# Altium integrated library TI Power Management Lighting and Display.IntLib: 745 symbols (part 35 of 48)
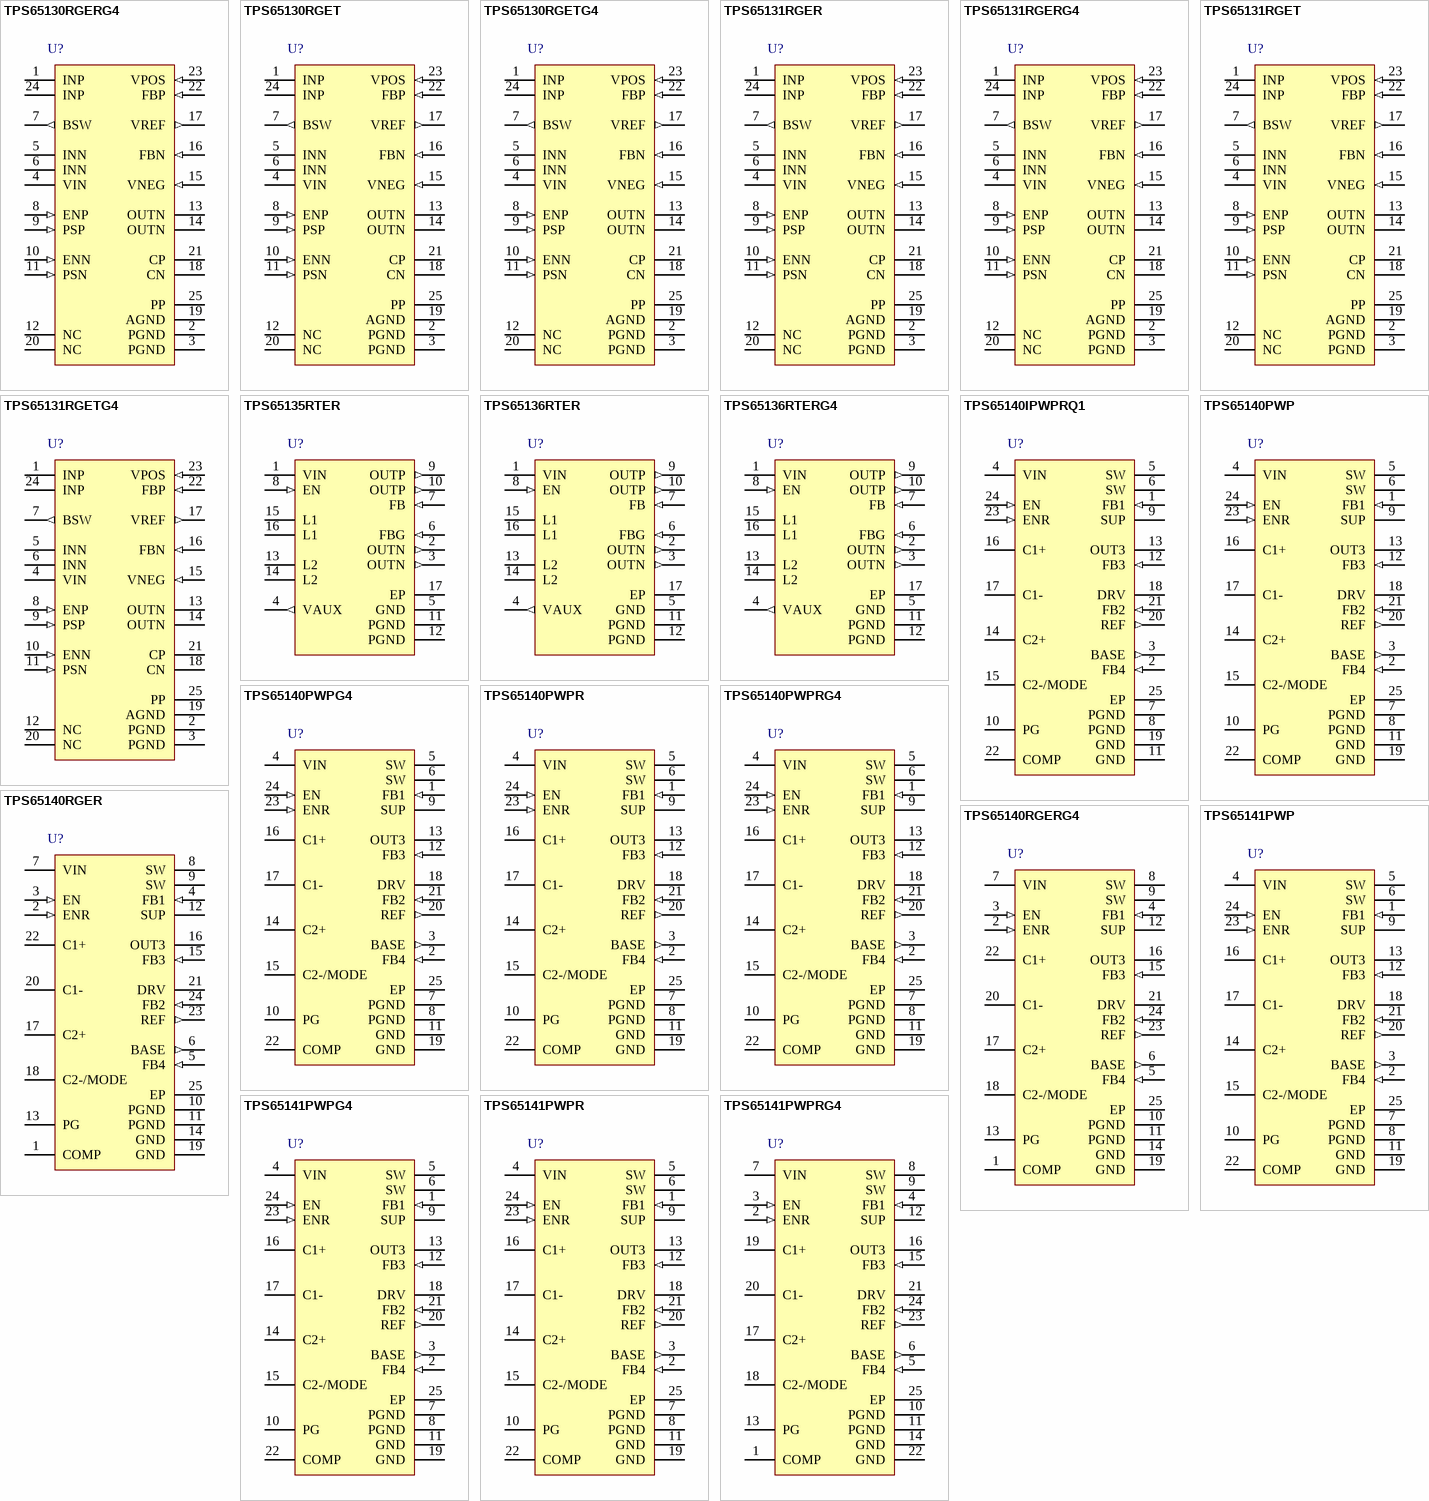
[diagram p65: symbols TPS65130RGERG4 to TPS65141PWPRG4]

## TPS65130RGET
designator U?
Postive and Negative Output DC-DC Converter, 2.7 to 5.5 V, -40 to 85 degC, 24-pin QFN (RGE24), Green (RoHS & no Sb/Br); Manufacturer: Texas Instruments; PartNumber: TPS65130RGET; Iq(Typ)(mA): 0.5; Rating: Catalog; SubFamily: LCD/OLED Display Bias Solutions; Switching Frequency(Typ)(kHz): 1400; Topology: Boost, Inverting Buck/Boost; Vin(Max)(V): 5.5; Vin(Min)(V): 2.7; DatasheetVersion: SLVS493B; PackageVersion: 4204104/G; PackageReference: RGE24-2450X2450TP; PackageDescription: 24-Pin Plastic Flat Pack, Body 4 x 4 mm, 0.5 mm Pitch; Supplier 1: Digi-Key; Supplier Part Number 1: TPS65130RGET-ND; Supplier 2: Newark; Supplier Part Number 2: 52K5944; Supplier 3: Mouser; Supplier Part Number 3: 595-TPS65130RGET; Eco-Plan: Green (RoHS & no Sb/Br); Mounting Technology: Surface Mount; Code_JEDEC: MO-220; ComponentLink1Description: Manufacturer URL; ComponentLink1URL: http://www.ti.com/; ComponentLink2Description: Datasheet; ComponentLink2URL: http://www.ti.com/general/docs/lit/getliterature.tsp?genericPartNumber=TPS65130&fileType=pdf; ComponentLink3Description: Package Specification; ComponentLink3URL: http://www.ti.com/litv/pdf/mpqf124f
footprint TI-RGE24-2450X2450TP_V (QFN, 24-Leads, Body 4x4mm, Pitch 0.5mm, Thermal Pad 2.45x2.45mm)
pins: 1 INP (power) "Boost converter switch input.", 2 PGND (power) "Power ground pin", 3 PGND (power) "Power ground pin", 4 VIN (power) "Control supply input", 5 INN (power) "Inverting converter switch input", 6 INN (power) "Inverting converter switch input", 7 BSW (out) "Gate control pin for external battery switch. This pin goes low when ENP is set high.", 8 ENP (in) "Enable pin for the positive output voltage (0 V: disabled, VIN: enabled)", 9 PSP (in) "Power-save mode enable for boost converter stage (0 V: disabled, VIN: enabled)", 10 ENN (in) "Enable pin for the negative output voltage (0 V: disabled, VIN: enabled)", 11 PSN (in) "Power-save mode enable for inverter stage (0 V: disabled, VIN: enabled)", 12 NC "Not connected", 13 OUTN (power) "Inverting converter switch output.", 14 OUTN (power) "Inverting converter switch output.", 15 VNEG (in) "Negative output voltage sense input", 16 FBN (in) "Feedback pin for the negative output voltage divider", 17 VREF (out) "Reference output voltage. Bypass this pin with a 220-nF capacitor to ground. Connect the lower resistor of the negative output voltage divider to this pin", 18 CN "Compensation pin for inverting converter control", 19 AGND (power) "Analog ground pin", 20 NC "Not connected", 21 CP "Compensation pin for boost converter control", 22 FBP (in) "Feedback pin for the positive output voltage divider", 23 VPOS (in) "Positive output voltage sense input", 24 INP (power) "Boost converter switch input.", 25 PP (power) "Must be soldered to achieve appropriate power dissipation and for mechanical reasons. Must be connected to GND."

## TPS65130RGETG4
designator U?
Postive and Negative Output DC-DC Converter, 2.7 to 5.5 V, -40 to 85 degC, 24-pin QFN (RGE24), Green (RoHS & no Sb/Br); Manufacturer: Texas Instruments; PartNumber: TPS65130RGETG4; Iq(Typ)(mA): 0.5; Rating: Catalog; SubFamily: LCD/OLED Display Bias Solutions; Switching Frequency(Typ)(kHz): 1400; Topology: Boost, Inverting Buck/Boost; Vin(Max)(V): 5.5; Vin(Min)(V): 2.7; DatasheetVersion: SLVS493B; PackageVersion: 4204104/G; PackageReference: RGE24-2450X2450TP; PackageDescription: 24-Pin Plastic Flat Pack, Body 4 x 4 mm, 0.5 mm Pitch; Supplier 1: Digi-Key; Supplier Part Number 1: TPS65130RGETG4-ND; Supplier 2: Newark; Supplier Part Number 2: 80K3422; Supplier 3: Mouser; Supplier Part Number 3: 595-TPS65130RGETG4; Eco-Plan: Green (RoHS & no Sb/Br); Mounting Technology: Surface Mount; Code_JEDEC: MO-220; ComponentLink1Description: Manufacturer URL; ComponentLink1URL: http://www.ti.com/; ComponentLink2Description: Datasheet; ComponentLink2URL: http://www.ti.com/general/docs/lit/getliterature.tsp?genericPartNumber=TPS65130&fileType=pdf; ComponentLink3Description: Package Specification; ComponentLink3URL: http://www.ti.com/litv/pdf/mpqf124f
footprint TI-RGE24-2450X2450TP_V (QFN, 24-Leads, Body 4x4mm, Pitch 0.5mm, Thermal Pad 2.45x2.45mm)
pins: 1 INP (power) "Boost converter switch input.", 2 PGND (power) "Power ground pin", 3 PGND (power) "Power ground pin", 4 VIN (power) "Control supply input", 5 INN (power) "Inverting converter switch input", 6 INN (power) "Inverting converter switch input", 7 BSW (out) "Gate control pin for external battery switch. This pin goes low when ENP is set high.", 8 ENP (in) "Enable pin for the positive output voltage (0 V: disabled, VIN: enabled)", 9 PSP (in) "Power-save mode enable for boost converter stage (0 V: disabled, VIN: enabled)", 10 ENN (in) "Enable pin for the negative output voltage (0 V: disabled, VIN: enabled)", 11 PSN (in) "Power-save mode enable for inverter stage (0 V: disabled, VIN: enabled)", 12 NC "Not connected", 13 OUTN (power) "Inverting converter switch output.", 14 OUTN (power) "Inverting converter switch output.", 15 VNEG (in) "Negative output voltage sense input", 16 FBN (in) "Feedback pin for the negative output voltage divider", 17 VREF (out) "Reference output voltage. Bypass this pin with a 220-nF capacitor to ground. Connect the lower resistor of the negative output voltage divider to this pin", 18 CN "Compensation pin for inverting converter control", 19 AGND (power) "Analog ground pin", 20 NC "Not connected", 21 CP "Compensation pin for boost converter control", 22 FBP (in) "Feedback pin for the positive output voltage divider", 23 VPOS (in) "Positive output voltage sense input", 24 INP (power) "Boost converter switch input.", 25 PP (power) "Must be soldered to achieve appropriate power dissipation and for mechanical reasons. Must be connected to GND."

## TPS65131RGER
designator U?
Postive and Negative Output DC-DC Converter, 2.7 to 5.5 V, -40 to 85 degC, 24-pin QFN (RGE24), Green (RoHS & no Sb/Br); Manufacturer: Texas Instruments; PartNumber: TPS65131RGER; Iq(Typ)(mA): 0.5; Rating: Catalog; SubFamily: LCD/OLED Display Bias Solutions; Switching Frequency(Typ)(kHz): 1400; Synchronous Rectification: TRUE; Topology: Boost, Inverting Buck/Boost; Vin(Max)(V): 5.5; Vin(Min)(V): 2.7; DatasheetVersion: SLVS493B; PackageVersion: 4204104/G; PackageReference: RGE24-2450X2450TP; PackageDescription: 24-Pin Plastic Flat Pack, Body 4 x 4 mm, 0.5 mm Pitch; Supplier 1: Digi-Key; Supplier Part Number 1: TPS65131RGER-ND; Supplier 2: Newark; Supplier Part Number 2: 44J2535; Supplier 3: Mouser; Supplier Part Number 3: 595-TPS65131RGER; Eco-Plan: Green (RoHS & no Sb/Br); Mounting Technology: Surface Mount; Code_JEDEC: MO-220; ComponentLink1Description: Manufacturer URL; ComponentLink1URL: http://www.ti.com/; ComponentLink2Description: Datasheet; ComponentLink2URL: http://www.ti.com/general/docs/lit/getliterature.tsp?genericPartNumber=TPS65131&fileType=pdf; ComponentLink3Description: Package Specification; ComponentLink3URL: http://www.ti.com/litv/pdf/mpqf124f
footprint TI-RGE24-2450X2450TP_V (QFN, 24-Leads, Body 4x4mm, Pitch 0.5mm, Thermal Pad 2.45x2.45mm)
pins: 1 INP (power) "Boost converter switch input.", 2 PGND (power) "Power ground pin", 3 PGND (power) "Power ground pin", 4 VIN (power) "Control supply input", 5 INN (power) "Inverting converter switch input", 6 INN (power) "Inverting converter switch input", 7 BSW (out) "Gate control pin for external battery switch. This pin goes low when ENP is set high.", 8 ENP (in) "Enable pin for the positive output voltage (0 V: disabled, VIN: enabled)", 9 PSP (in) "Power-save mode enable for boost converter stage (0 V: disabled, VIN: enabled)", 10 ENN (in) "Enable pin for the negative output voltage (0 V: disabled, VIN: enabled)", 11 PSN (in) "Power-save mode enable for inverter stage (0 V: disabled, VIN: enabled)", 12 NC "Not connected", 13 OUTN (power) "Inverting converter switch output.", 14 OUTN (power) "Inverting converter switch output.", 15 VNEG (in) "Negative output voltage sense input", 16 FBN (in) "Feedback pin for the negative output voltage divider", 17 VREF (out) "Reference output voltage. Bypass this pin with a 220-nF capacitor to ground. Connect the lower resistor of the negative output voltage divider to this pin", 18 CN "Compensation pin for inverting converter control", 19 AGND (power) "Analog ground pin", 20 NC "Not connected", 21 CP "Compensation pin for boost converter control", 22 FBP (in) "Feedback pin for the positive output voltage divider", 23 VPOS (in) "Positive output voltage sense input", 24 INP (power) "Boost converter switch input.", 25 PP (power) "Exposed Thermal Pad."

## TPS65131RGERG4
designator U?
Postive and Negative Output DC-DC Converter, 2.7 to 5.5 V, -40 to 85 degC, 24-pin QFN (RGE24), Green (RoHS & no Sb/Br); Manufacturer: Texas Instruments; PartNumber: TPS65131RGERG4; Iq(Typ)(mA): 0.5; Rating: Catalog; SubFamily: LCD/OLED Display Bias Solutions; Switching Frequency(Typ)(kHz): 1400; Synchronous Rectification: TRUE; Topology: Boost, Inverting Buck/Boost; Vin(Max)(V): 5.5; Vin(Min)(V): 2.7; DatasheetVersion: SLVS493B; PackageVersion: 4204104/G; PackageReference: RGE24-2450X2450TP; PackageDescription: 24-Pin Plastic Flat Pack, Body 4 x 4 mm, 0.5 mm Pitch; Supplier 1: Digi-Key; Supplier Part Number 1: TPS65131RGERG4-ND; Supplier 2: Newark; Supplier Part Number 2: 33K7647; Supplier 3: Mouser; Supplier Part Number 3: 595-TPS65131RGERG4; Eco-Plan: Green (RoHS & no Sb/Br); Mounting Technology: Surface Mount; Code_JEDEC: MO-220; ComponentLink1Description: Manufacturer URL; ComponentLink1URL: http://www.ti.com/; ComponentLink2Description: Datasheet; ComponentLink2URL: http://www.ti.com/general/docs/lit/getliterature.tsp?genericPartNumber=TPS65131&fileType=pdf; ComponentLink3Description: Package Specification; ComponentLink3URL: http://www.ti.com/litv/pdf/mpqf124f
footprint TI-RGE24-2450X2450TP_V (QFN, 24-Leads, Body 4x4mm, Pitch 0.5mm, Thermal Pad 2.45x2.45mm)
pins: 1 INP (power) "Boost converter switch input.", 2 PGND (power) "Power ground pin", 3 PGND (power) "Power ground pin", 4 VIN (power) "Control supply input", 5 INN (power) "Inverting converter switch input", 6 INN (power) "Inverting converter switch input", 7 BSW (out) "Gate control pin for external battery switch. This pin goes low when ENP is set high.", 8 ENP (in) "Enable pin for the positive output voltage (0 V: disabled, VIN: enabled)", 9 PSP (in) "Power-save mode enable for boost converter stage (0 V: disabled, VIN: enabled)", 10 ENN (in) "Enable pin for the negative output voltage (0 V: disabled, VIN: enabled)", 11 PSN (in) "Power-save mode enable for inverter stage (0 V: disabled, VIN: enabled)", 12 NC "Not connected", 13 OUTN (power) "Inverting converter switch output.", 14 OUTN (power) "Inverting converter switch output.", 15 VNEG (in) "Negative output voltage sense input", 16 FBN (in) "Feedback pin for the negative output voltage divider", 17 VREF (out) "Reference output voltage. Bypass this pin with a 220-nF capacitor to ground. Connect the lower resistor of the negative output voltage divider to this pin", 18 CN "Compensation pin for inverting converter control", 19 AGND (power) "Analog ground pin", 20 NC "Not connected", 21 CP "Compensation pin for boost converter control", 22 FBP (in) "Feedback pin for the positive output voltage divider", 23 VPOS (in) "Positive output voltage sense input", 24 INP (power) "Boost converter switch input.", 25 PP (power) "Exposed Thermal Pad."

## TPS65131RGET
designator U?
Postive and Negative Output DC-DC Converter, 2.7 to 5.5 V, -40 to 85 degC, 24-pin QFN (RGE24), Green (RoHS & no Sb/Br); Manufacturer: Texas Instruments; PartNumber: TPS65131RGET; Iq(Typ)(mA): 0.5; Rating: Catalog; SubFamily: LCD/OLED Display Bias Solutions; Switching Frequency(Typ)(kHz): 1400; Synchronous Rectification: TRUE; Topology: Boost, Inverting Buck/Boost; Vin(Max)(V): 5.5; Vin(Min)(V): 2.7; DatasheetVersion: SLVS493B; PackageVersion: 4204104/G; PackageReference: RGE24-2450X2450TP; PackageDescription: 24-Pin Plastic Flat Pack, Body 4 x 4 mm, 0.5 mm Pitch; Supplier 1: Digi-Key; Supplier Part Number 1: 296-17349-2-ND; Supplier 2: Digi-Key; Supplier Part Number 2: 296-17349-1-ND; Supplier 3: Digi-Key; Supplier Part Number 3: 296-17349-6-ND; Supplier 4: Newark; Supplier Part Number 4: 44J2536; Supplier 5: Mouser; Supplier Part Number 5: 595-TPS65131RGET; Eco-Plan: Green (RoHS & no Sb/Br); Mounting Technology: Surface Mount; Code_JEDEC: MO-220; ComponentLink1Description: Manufacturer URL; ComponentLink1URL: http://www.ti.com/; ComponentLink2Description: Datasheet; ComponentLink2URL: http://www.ti.com/general/docs/lit/getliterature.tsp?genericPartNumber=TPS65131&fileType=pdf; ComponentLink3Description: Package Specification; ComponentLink3URL: http://www.ti.com/litv/pdf/mpqf124f
footprint TI-RGE24-2450X2450TP_V (QFN, 24-Leads, Body 4x4mm, Pitch 0.5mm, Thermal Pad 2.45x2.45mm)
pins: 1 INP (power) "Boost converter switch input.", 2 PGND (power) "Power ground pin", 3 PGND (power) "Power ground pin", 4 VIN (power) "Control supply input", 5 INN (power) "Inverting converter switch input", 6 INN (power) "Inverting converter switch input", 7 BSW (out) "Gate control pin for external battery switch. This pin goes low when ENP is set high.", 8 ENP (in) "Enable pin for the positive output voltage (0 V: disabled, VIN: enabled)", 9 PSP (in) "Power-save mode enable for boost converter stage (0 V: disabled, VIN: enabled)", 10 ENN (in) "Enable pin for the negative output voltage (0 V: disabled, VIN: enabled)", 11 PSN (in) "Power-save mode enable for inverter stage (0 V: disabled, VIN: enabled)", 12 NC "Not connected", 13 OUTN (power) "Inverting converter switch output.", 14 OUTN (power) "Inverting converter switch output.", 15 VNEG (in) "Negative output voltage sense input", 16 FBN (in) "Feedback pin for the negative output voltage divider", 17 VREF (out) "Reference output voltage. Bypass this pin with a 220-nF capacitor to ground. Connect the lower resistor of the negative output voltage divider to this pin", 18 CN "Compensation pin for inverting converter control", 19 AGND (power) "Analog ground pin", 20 NC "Not connected", 21 CP "Compensation pin for boost converter control", 22 FBP (in) "Feedback pin for the positive output voltage divider", 23 VPOS (in) "Positive output voltage sense input", 24 INP (power) "Boost converter switch input.", 25 PP (power) "Exposed Thermal Pad."

## TPS65131RGETG4
designator U?
Postive and Negative Output DC-DC Converter, 2.7 to 5.5 V, -40 to 85 degC, 24-pin QFN (RGE24), Green (RoHS & no Sb/Br); Manufacturer: Texas Instruments; PartNumber: TPS65131RGETG4; Iq(Typ)(mA): 0.5; Rating: Catalog; SubFamily: LCD/OLED Display Bias Solutions; Switching Frequency(Typ)(kHz): 1400; Synchronous Rectification: TRUE; Topology: Boost, Inverting Buck/Boost; Vin(Max)(V): 5.5; Vin(Min)(V): 2.7; DatasheetVersion: SLVS493B; PackageVersion: 4204104/G; PackageReference: RGE24-2450X2450TP; PackageDescription: 24-Pin Plastic Flat Pack, Body 4 x 4 mm, 0.5 mm Pitch; Supplier 1: Digi-Key; Supplier Part Number 1: 296-28008-2-ND; Supplier 2: Digi-Key; Supplier Part Number 2: 296-28008-1-ND; Supplier 3: Digi-Key; Supplier Part Number 3: 296-28008-6-ND; Supplier 4: Newark; Supplier Part Number 4: 24K6058; Supplier 5: Mouser; Supplier Part Number 5: 595-TPS65131RGETG4; Eco-Plan: Green (RoHS & no Sb/Br); Mounting Technology: Surface Mount; Code_JEDEC: MO-220; ComponentLink1Description: Manufacturer URL; ComponentLink1URL: http://www.ti.com/; ComponentLink2Description: Datasheet; ComponentLink2URL: http://www.ti.com/general/docs/lit/getliterature.tsp?genericPartNumber=TPS65131&fileType=pdf; ComponentLink3Description: Package Specification; ComponentLink3URL: http://www.ti.com/litv/pdf/mpqf124f
footprint TI-RGE24-2450X2450TP_V (QFN, 24-Leads, Body 4x4mm, Pitch 0.5mm, Thermal Pad 2.45x2.45mm)
pins: 1 INP (power) "Boost converter switch input.", 2 PGND (power) "Power ground pin", 3 PGND (power) "Power ground pin", 4 VIN (power) "Control supply input", 5 INN (power) "Inverting converter switch input", 6 INN (power) "Inverting converter switch input", 7 BSW (out) "Gate control pin for external battery switch. This pin goes low when ENP is set high.", 8 ENP (in) "Enable pin for the positive output voltage (0 V: disabled, VIN: enabled)", 9 PSP (in) "Power-save mode enable for boost converter stage (0 V: disabled, VIN: enabled)", 10 ENN (in) "Enable pin for the negative output voltage (0 V: disabled, VIN: enabled)", 11 PSN (in) "Power-save mode enable for inverter stage (0 V: disabled, VIN: enabled)", 12 NC "Not connected", 13 OUTN (power) "Inverting converter switch output.", 14 OUTN (power) "Inverting converter switch output.", 15 VNEG (in) "Negative output voltage sense input", 16 FBN (in) "Feedback pin for the negative output voltage divider", 17 VREF (out) "Reference output voltage. Bypass this pin with a 220-nF capacitor to ground. Connect the lower resistor of the negative output voltage divider to this pin", 18 CN "Compensation pin for inverting converter control", 19 AGND (power) "Analog ground pin", 20 NC "Not connected", 21 CP "Compensation pin for boost converter control", 22 FBP (in) "Feedback pin for the positive output voltage divider", 23 VPOS (in) "Positive output voltage sense input", 24 INP (power) "Boost converter switch input.", 25 PP (power) "Exposed Thermal Pad."

## TPS65135RTER
designator U?
Single-Inductor, Multiple-Output(SIMO) Regulator, 2.5 to 5.5 V, -40 to 85 degC, 16-pin QFN (RTE16), Green (RoHS & no Sb/Br); Manufacturer: Texas Instruments; PartNumber: TPS65135RTER; Iq(Typ)(mA): 7; Rating: Catalog; SubFamily: LCD/OLED Display Bias Solutions; Topology: Buck/Boost; Vin(Max)(V): 5.5; Vin(Min)(V): 2.5; DatasheetVersion: SLVS704A; PackageVersion: 4205254/D; PackageReference: RTE16-1700X1700TP; PackageDescription: 16-Pin Plastic Flat Pack, Body 3 x 3 mm, Pitch 0.5 mm; Supplier 1: Digi-Key; Supplier Part Number 1: 296-29899-2-ND; Supplier 2: Digi-Key; Supplier Part Number 2: 296-29899-1-ND; Supplier 3: Digi-Key; Supplier Part Number 3: 296-29899-6-ND; Supplier 4: Newark; Supplier Part Number 4: 74T5571; Supplier 5: Mouser; Supplier Part Number 5: 595-TPS65135RTER; Eco-Plan: Green (RoHS & no Sb/Br); Mounting Technology: Surface Mount; Code_JEDEC: MO-220; ComponentLink1Description: Manufacturer URL; ComponentLink1URL: http://www.ti.com/; ComponentLink2Description: Datasheet; ComponentLink2URL: http://www.ti.com/general/docs/lit/getliterature.tsp?genericPartNumber=TPS65135&fileType=pdf; ComponentLink3Description: Package Specification; ComponentLink3URL: http://www.ti.com/litv/pdf/mpqf149c
footprint TI-RTE16-1700X1700TP_V (QFN, 16-Leads, Body 3x3mm, Pitch 0.5mm, Thermal Pad 1.7x1.7mm)
pins: 1 VIN (power) "Input supply", 2 OUTN (out) "Negative output", 3 OUTN (out) "Negative output", 4 VAUX (out) "Reference voltage output. This pin requires a 100-nF capacitor for stability.", 5 GND (power) "Analog ground", 6 FBG (in) "Feedback regulation input", 7 FB (in) "Feedback regulation input for the positive output voltage rail", 8 EN (in) "Input pin to enable the device. Pulling this pin high enables the device. This pin has an internal 500-k ohm pulldown resistor.", 9 OUTP (out) "Positive output", 10 OUTP (out) "Positive output", 11 PGND (power) "Power GND", 12 PGND (power) "Power GND", 13 L2 (power) "Inductor terminal", 14 L2 (power) "Inductor terminal", 15 L1 (power) "Inductor terminal", 16 L1 (power) "Inductor terminal", 17 EP (power) "Connect this pad to analog GND."

## TPS65136RTER
designator U?
Single Inductor Multiple Outputs (SIMO) for Positive and Negative Output, 2.3 to 5.5 V, -40 to 85 degC, 16-pin QFN (RTE16), Green (RoHS & no Sb/Br); Manufacturer: Texas Instruments; PartNumber: TPS65136RTER; Iq(Typ)(mA): 1.7; Rating: Catalog; SubFamily: LCD/OLED Display Bias Solutions; Switching Frequency(Typ)(kHz): 40 to 1000; Topology: Boost, Inverting Buck/Boost; Vin(Max)(V): 5.5; Vin(Min)(V): 2.3; DatasheetVersion: SLVS831A; PackageVersion: 4205254/D; PackageReference: RTE16-1700X1700TP; PackageDescription: 16-Pin Plastic Flat Pack, Body 3 x 3 mm, Pitch 0.5 mm; Supplier 1: Digi-Key; Supplier Part Number 1: 296-23398-2-ND; Supplier 2: Digi-Key; Supplier Part Number 2: 296-23398-1-ND; Supplier 3: Digi-Key; Supplier Part Number 3: 296-23398-6-ND; Supplier 4: Farnell; Supplier Part Number 4: 1647920; Supplier 5: Farnell; Supplier Part Number 5: 1647920RL; Supplier 6: Newark; Supplier Part Number 6: 33P8381; Supplier 7: Mouser; Supplier Part Number 7: 595-TPS65136RTER; Eco-Plan: Green (RoHS & no Sb/Br); Mounting Technology: Surface Mount; Code_JEDEC: MO-220; ComponentLink1Description: Manufacturer URL; ComponentLink1URL: http://www.ti.com/; ComponentLink2Description: Datasheet; ComponentLink2URL: http://www.ti.com/general/docs/lit/getliterature.tsp?genericPartNumber=TPS65136&fileType=pdf; ComponentLink3Description: Package Specification; ComponentLink3URL: http://www.ti.com/litv/pdf/mpqf149c
footprint TI-RTE16-1700X1700TP_V (QFN, 16-Leads, Body 3x3mm, Pitch 0.5mm, Thermal Pad 1.7x1.7mm)
pins: 1 VIN (power) "Input supply", 2 OUTN (out) "Negative output", 3 OUTN (out) "Negative output", 4 VAUX (out) "Reference voltage output. This pin requires a 100-nF capacitor for stability.", 5 GND (power) "Analog ground", 6 FBG (in) "Feedback regulation input", 7 FB (in) "Feedback regulation input for the positive output voltage rail", 8 EN (in) "Input pin to enable the device. Pulling this pin high enables the device. This pin has an internal 500-k ohm pulldown resistor.", 9 OUTP (out) "Positive output", 10 OUTP (out) "Positive output", 11 PGND (power) "Power GND", 12 PGND (power) "Power GND", 13 L2 (power) "Inductor terminal", 14 L2 (power) "Inductor terminal", 15 L1 (power) "Inductor terminal", 16 L1 (power) "Inductor terminal", 17 EP (power) "Connect this pad to analog GND."

## TPS65136RTERG4
designator U?
Single Inductor Multiple Outputs (SIMO) for Positive and Negative Output, 2.3 to 5.5 V, -40 to 85 degC, 16-pin QFN (RTE16), Green (RoHS & no Sb/Br); Manufacturer: Texas Instruments; PartNumber: TPS65136RTERG4; Iq(Typ)(mA): 1.7; Rating: Catalog; SubFamily: LCD/OLED Display Bias Solutions; Switching Frequency(Typ)(kHz): 40 to 1000; Topology: Boost, Inverting Buck/Boost; Vin(Max)(V): 5.5; Vin(Min)(V): 2.3; DatasheetVersion: SLVS831A; PackageVersion: 4205254/D; PackageReference: RTE16-1700X1700TP; PackageDescription: 16-Pin Plastic Flat Pack, Body 3 x 3 mm, Pitch 0.5 mm; Supplier 1: Digi-Key; Supplier Part Number 1: TPS65136RTERG4-ND; Supplier 2: Mouser; Supplier Part Number 2: 595-TPS65136RTERG4; Eco-Plan: Green (RoHS & no Sb/Br); Mounting Technology: Surface Mount; Code_JEDEC: MO-220; ComponentLink1Description: Manufacturer URL; ComponentLink1URL: http://www.ti.com/; ComponentLink2Description: Datasheet; ComponentLink2URL: http://www.ti.com/general/docs/lit/getliterature.tsp?genericPartNumber=TPS65136&fileType=pdf; ComponentLink3Description: Package Specification; ComponentLink3URL: http://www.ti.com/litv/pdf/mpqf149c
footprint TI-RTE16-1700X1700TP_V (QFN, 16-Leads, Body 3x3mm, Pitch 0.5mm, Thermal Pad 1.7x1.7mm)
pins: 1 VIN (power) "Input supply", 2 OUTN (out) "Negative output", 3 OUTN (out) "Negative output", 4 VAUX (out) "Reference voltage output. This pin requires a 100-nF capacitor for stability.", 5 GND (power) "Analog ground", 6 FBG (in) "Feedback regulation input", 7 FB (in) "Feedback regulation input for the positive output voltage rail", 8 EN (in) "Input pin to enable the device. Pulling this pin high enables the device. This pin has an internal 500-k ohm pulldown resistor.", 9 OUTP (out) "Positive output", 10 OUTP (out) "Positive output", 11 PGND (power) "Power GND", 12 PGND (power) "Power GND", 13 L2 (power) "Inductor terminal", 14 L2 (power) "Inductor terminal", 15 L1 (power) "Inductor terminal", 16 L1 (power) "Inductor terminal", 17 EP (power) "Connect this pad to analog GND."

## TPS65140IPWPRQ1
designator U?
Automotive Catalog 4-Channel Power Supply for LCD Monitor (5V), 2.7 to 5.8 V, -40 to 85 degC, 24-pin SOP (PWP24), Green (RoHS & no Sb/Br); Manufacturer: Texas Instruments; PartNumber: TPS65140IPWPRQ1; Iout(Max)(A): 0.02; Iq(Typ)(mA): 3.9; SubFamily: LCD/OLED Display Bias Solutions; Switching Frequency(Typ)(kHz): 1600; Topology: Boost, Inverting Buck/Boost; Vin(Max)(V): 5.8; Vin(Min)(V): 2.7; DatasheetVersion: SGLS277A; PackageVersion: 4073225-5/I; PackageReference: PWP24-4420X1950TP; PackageDescription: 24-Lead, Plastic Small Outline, Body Size 4.4 x 7.8 mm, Pitch 0.65 mm; Supplier 1: Digi-Key; Supplier Part Number 1: 296-19612-2-ND; Supplier 2: Digi-Key; Supplier Part Number 2: 296-19612-1-ND; Supplier 3: Digi-Key; Supplier Part Number 3: 296-19612-6-ND; Supplier 4: Mouser; Supplier Part Number 4: 595-TPS65140IPWPRQ1; Eco-Plan: Green (RoHS & no Sb/Br); Rating: Automotive; Mounting Technology: Surface Mount; Code_JEDEC: MO-153; ComponentLink1Description: Manufacturer URL; ComponentLink1URL: http://www.ti.com/; ComponentLink2Description: Datasheet; ComponentLink2URL: http://www.ti.com/general/docs/lit/getliterature.tsp?genericPartNumber=TPS65140-Q1&fileType=pdf; ComponentLink3Description: Package Specification; ComponentLink3URL: http://www.ti.com/lit/ds/symlink/tps65101.pdf
footprint TI-PWP24-4420X1950TP_N (SOP, 24-Leads, Body 7.8x4.4mm, Pitch 0.65mm, Thermal Pad 4.42x1.95mm, IPC Medium Density)
footprint TI-PWP24-4420X1950TP_L (SOP, 24-Leads, Body 7.8x4.4mm, Pitch 0.65mm, Thermal Pad 4.42x1.95mm, IPC High Density)
footprint TI-PWP24-4420X1950TP_M (SOP, 24-Leads, Body 7.8x4.4mm, Pitch 0.65mm, Thermal Pad 4.42x1.95mm, IPC Low Density)
pins: 1 FB1 (in) "Feedback pin of the boost converter", 2 FB4 (in) "Feedback pin the of the linear regulator controller .The linear regulator controller is set to a fixed output voltage of 3.3 V of 3 V depending on the version.", 3 BASE (out) "Base drive output for the external transistor", 4 VIN (power) "Input voltage pin of the device.", 5 SW (power) "Switch pin of the boost converter", 6 SW (power) "Switch pin of the boost converter", 7 PGND (power) "Power ground", 8 PGND (power) "Power ground", 9 SUP (power) "Supply pin of the positive, negative charge pump, boost converter, and gate drive circuit.This pin needs to be connected to the output of the main boots converter and cannot be onnected to any other voltage source.For (See Datasheet)", 10 PG (oc) "Open drain output indicating when all outputs VO1, VO2, VO3 are within 10% of their nominal output voltage. The output goes low when one of the outputs falls below 10% of their nominal output voltage.", 11 GND (power) "Ground", 12 FB3 (in) "Feedback pin of positive charge pump", 13 OUT3 (power) "Positive charge pump output", 14 C2+ "Positive terminal for the charge pump flying capacitor. If the device runs in voltage doubler mode, this pin needs to be left open.", 15 C2-/MODE "Negative terminal of the charge pump flying capacitor and charge pump MODE pin. If the flying capacitor is connected to this pin, the concerter operates in a voltage tripler mode.if the charge pump needs to operate in a (See Datasheet)", 16 C1+ "Positive terminal of the charge pump flying capacitor", 17 C1- "Negative terminal of the charge pump flying capacitor", 18 DRV (power) "External charge pump driver", 19 GND (power) "Ground", 20 REF (out) "Internal reference output typically 1.23 V", 21 FB2 (in) "Feedback pin of negative charge pump", 22 COMP "Compensation pin for the main boost converter. A small capacitor is connected to this pin.", 23 ENR (in) "Enable pin of the linear regulator controller. This pin should be terminated and not be left floating. Logic high enables the regulator and a logic low puts the regulator in shutdown.", 24 EN (in) "Enable pin of the device.This pin should be terminated and be left floating.A logic high enables the device and a logic low shuts down the device.", 25 EP (power) "The PowerPAD or exposed thermal die needs to be connected to power ground pins (PGND)"

## TPS65140PWP
designator U?
4-Channel LCD Bias with Fully Integrated Postive Charge Pump, 3.3 V LDO Controller, 2.7 to 5.8 V, -40 to 85 degC, 24-pin SOP (PWP24), Green (RoHS & no Sb/Br); Manufacturer: Texas Instruments; PartNumber: TPS65140PWP; Iout(Max)(A): 0.02; Iq(Typ)(mA): 0.7; Rating: Catalog; SubFamily: LCD/OLED Display Bias Solutions; Switching Frequency(Typ)(kHz): 1600; Synchronous Rectification: TRUE; Topology: Boost, Inverting Buck/Boost; Vin(Max)(V): 5.8; Vin(Min)(V): 2.7; DatasheetVersion: SLVS497E; PackageVersion: 4073225-5/I; PackageReference: PWP24-4420X1950TP; PackageDescription: 24-Lead, Plastic Small Outline, Body Size 4.4 x 7.8 mm, Pitch 0.65 mm; Supplier 1: Digi-Key; Supplier Part Number 1: 296-34637-5-ND; Supplier 2: Mouser; Supplier Part Number 2: 595-TPS65140PWP; Eco-Plan: Green (RoHS & no Sb/Br); Mounting Technology: Surface Mount; Code_JEDEC: MO-153; ComponentLink1Description: Manufacturer URL; ComponentLink1URL: http://www.ti.com/; ComponentLink2Description: Datasheet; ComponentLink2URL: http://www.ti.com/general/docs/lit/getliterature.tsp?genericPartNumber=TPS65140&fileType=pdf; ComponentLink3Description: Package Specification; ComponentLink3URL: http://www.ti.com/lit/ds/symlink/tps65101.pdf
footprint TI-PWP24-4420X1950TP_N (SOP, 24-Leads, Body 7.8x4.4mm, Pitch 0.65mm, Thermal Pad 4.42x1.95mm, IPC Medium Density)
footprint TI-PWP24-4420X1950TP_L (SOP, 24-Leads, Body 7.8x4.4mm, Pitch 0.65mm, Thermal Pad 4.42x1.95mm, IPC High Density)
footprint TI-PWP24-4420X1950TP_M (SOP, 24-Leads, Body 7.8x4.4mm, Pitch 0.65mm, Thermal Pad 4.42x1.95mm, IPC Low Density)
pins: 1 FB1 (in) "Feedback pin of the boost converter", 2 FB4 (in) "Feedback pin the of the linear regulator controller .The linear regulator controller is set to a fixed output voltage of 3.3 V of 3 V depending on the version.", 3 BASE (out) "Base drive output for the external transistor", 4 VIN (power) "Input voltage pin of the device.", 5 SW (power) "Switch pin of the boost converter", 6 SW (power) "Switch pin of the boost converter", 7 PGND (power) "Power ground", 8 PGND (power) "Power ground", 9 SUP (power) "Supply pin of the positive, negative charge pump, boost converter, and gate drive circuit.This pin needs to be connected to the output of the main boots converter and cannot be onnected to any other voltage source.For (See Datasheet)", 10 PG (oc) "Open drain output indicating when all outputs VO1, VO2, VO3 are within 10% of their nominal output voltage. The output goes low when one of the outputs falls below 10% of their nominal output voltage.", 11 GND (power) "Ground", 12 FB3 (in) "Feedback pin of positive charge pump", 13 OUT3 (power) "Positive charge pump output", 14 C2+ "Positive terminal for the charge pump flying capacitor. If the device runs in voltage doubler mode, this pin needs to be left open.", 15 C2-/MODE "Negative terminal of the charge pump flying capacitor and charge pump MODE pin. If the flying capacitor is connected to this pin, the concerter operates in a voltage tripler mode.if the charge pump needs to operate in a (See Datasheet)", 16 C1+ "Positive terminal of the charge pump flying capacitor", 17 C1- "Negative terminal of the charge pump flying capacitor", 18 DRV (power) "External charge pump driver", 19 GND (power) "Ground", 20 REF (out) "Internal reference output typically 1.23 V", 21 FB2 (in) "Feedback pin of negative charge pump", 22 COMP "Compensation pin for the main boost converter. A small capacitor is connected to this pin.", 23 ENR (in) "Enable pin of the linear regulator controller. This pin should be terminated and not be left floating. Logic high enables the regulator and a logic low puts the regulator in shutdown.", 24 EN (in) "Enable pin of the device.This pin should be terminated and be left floating.A logic high enables the device and a logic low shuts down the device.", 25 EP (power) "The PowerPAD or exposed thermal die needs to be connected to power ground pins (PGND)"

## TPS65140PWPG4
designator U?
4-Channel LCD Bias with Fully Integrated Postive Charge Pump, 3.3 V LDO Controller, 2.7 to 5.8 V, -40 to 85 degC, 24-pin SOP (PWP24), Green (RoHS & no Sb/Br); Manufacturer: Texas Instruments; PartNumber: TPS65140PWPG4; Iout(Max)(A): 0.02; Iq(Typ)(mA): 0.7; Rating: Catalog; SubFamily: LCD/OLED Display Bias Solutions; Switching Frequency(Typ)(kHz): 1600; Synchronous Rectification: TRUE; Topology: Boost, Inverting Buck/Boost; Vin(Max)(V): 5.8; Vin(Min)(V): 2.7; DatasheetVersion: SLVS497E; PackageVersion: 4073225-5/I; PackageReference: PWP24-4420X1950TP; PackageDescription: 24-Lead, Plastic Small Outline, Body Size 4.4 x 7.8 mm, Pitch 0.65 mm; Supplier 1: Digi-Key; Supplier Part Number 1: TPS65140PWPG4-ND; Supplier 2: Mouser; Supplier Part Number 2: 595-TPS65140PWPG4; Eco-Plan: Green (RoHS & no Sb/Br); Mounting Technology: Surface Mount; Code_JEDEC: MO-153; ComponentLink1Description: Manufacturer URL; ComponentLink1URL: http://www.ti.com/; ComponentLink2Description: Datasheet; ComponentLink2URL: http://www.ti.com/general/docs/lit/getliterature.tsp?genericPartNumber=TPS65140&fileType=pdf; ComponentLink3Description: Package Specification; ComponentLink3URL: http://www.ti.com/lit/ds/symlink/tps65101.pdf
footprint TI-PWP24-4420X1950TP_N (SOP, 24-Leads, Body 7.8x4.4mm, Pitch 0.65mm, Thermal Pad 4.42x1.95mm, IPC Medium Density)
footprint TI-PWP24-4420X1950TP_L (SOP, 24-Leads, Body 7.8x4.4mm, Pitch 0.65mm, Thermal Pad 4.42x1.95mm, IPC High Density)
footprint TI-PWP24-4420X1950TP_M (SOP, 24-Leads, Body 7.8x4.4mm, Pitch 0.65mm, Thermal Pad 4.42x1.95mm, IPC Low Density)
pins: 1 FB1 (in) "Feedback pin of the boost converter", 2 FB4 (in) "Feedback pin the of the linear regulator controller .The linear regulator controller is set to a fixed output voltage of 3.3 V of 3 V depending on the version.", 3 BASE (out) "Base drive output for the external transistor", 4 VIN (power) "Input voltage pin of the device.", 5 SW (power) "Switch pin of the boost converter", 6 SW (power) "Switch pin of the boost converter", 7 PGND (power) "Power ground", 8 PGND (power) "Power ground", 9 SUP (power) "Supply pin of the positive, negative charge pump, boost converter, and gate drive circuit.This pin needs to be connected to the output of the main boots converter and cannot be onnected to any other voltage source.For (See Datasheet)", 10 PG (oc) "Open drain output indicating when all outputs VO1, VO2, VO3 are within 10% of their nominal output voltage. The output goes low when one of the outputs falls below 10% of their nominal output voltage.", 11 GND (power) "Ground", 12 FB3 (in) "Feedback pin of positive charge pump", 13 OUT3 (power) "Positive charge pump output", 14 C2+ "Positive terminal for the charge pump flying capacitor. If the device runs in voltage doubler mode, this pin needs to be left open.", 15 C2-/MODE "Negative terminal of the charge pump flying capacitor and charge pump MODE pin. If the flying capacitor is connected to this pin, the concerter operates in a voltage tripler mode.if the charge pump needs to operate in a (See Datasheet)", 16 C1+ "Positive terminal of the charge pump flying capacitor", 17 C1- "Negative terminal of the charge pump flying capacitor", 18 DRV (power) "External charge pump driver", 19 GND (power) "Ground", 20 REF (out) "Internal reference output typically 1.23 V", 21 FB2 (in) "Feedback pin of negative charge pump", 22 COMP "Compensation pin for the main boost converter. A small capacitor is connected to this pin.", 23 ENR (in) "Enable pin of the linear regulator controller. This pin should be terminated and not be left floating. Logic high enables the regulator and a logic low puts the regulator in shutdown.", 24 EN (in) "Enable pin of the device.This pin should be terminated and be left floating.A logic high enables the device and a logic low shuts down the device.", 25 EP (power) "The PowerPAD or exposed thermal die needs to be connected to power ground pins (PGND)"

## TPS65140PWPR
designator U?
4-Channel LCD Bias with Fully Integrated Postive Charge Pump, 3.3 V LDO Controller, 2.7 to 5.8 V, -40 to 85 degC, 24-pin SOP (PWP24), Green (RoHS & no Sb/Br); Manufacturer: Texas Instruments; PartNumber: TPS65140PWPR; Iout(Max)(A): 0.02; Iq(Typ)(mA): 0.7; Rating: Catalog; SubFamily: LCD/OLED Display Bias Solutions; Switching Frequency(Typ)(kHz): 1600; Synchronous Rectification: TRUE; Topology: Boost, Inverting Buck/Boost; Vin(Max)(V): 5.8; Vin(Min)(V): 2.7; DatasheetVersion: SLVS497E; PackageVersion: 4073225-5/I; PackageReference: PWP24-4420X1950TP; PackageDescription: 24-Lead, Plastic Small Outline, Body Size 4.4 x 7.8 mm, Pitch 0.65 mm; Supplier 1: Digi-Key; Supplier Part Number 1: 296-18998-2-ND; Supplier 2: Digi-Key; Supplier Part Number 2: 296-18998-1-ND; Supplier 3: Digi-Key; Supplier Part Number 3: 296-18998-6-ND; Supplier 4: Mouser; Supplier Part Number 4: 595-TPS65140PWPR; Eco-Plan: Green (RoHS & no Sb/Br); Mounting Technology: Surface Mount; Code_JEDEC: MO-153; ComponentLink1Description: Manufacturer URL; ComponentLink1URL: http://www.ti.com/; ComponentLink2Description: Datasheet; ComponentLink2URL: http://www.ti.com/general/docs/lit/getliterature.tsp?genericPartNumber=TPS65140&fileType=pdf; ComponentLink3Description: Package Specification; ComponentLink3URL: http://www.ti.com/lit/ds/symlink/tps65101.pdf
footprint TI-PWP24-4420X1950TP_N (SOP, 24-Leads, Body 7.8x4.4mm, Pitch 0.65mm, Thermal Pad 4.42x1.95mm, IPC Medium Density)
footprint TI-PWP24-4420X1950TP_L (SOP, 24-Leads, Body 7.8x4.4mm, Pitch 0.65mm, Thermal Pad 4.42x1.95mm, IPC High Density)
footprint TI-PWP24-4420X1950TP_M (SOP, 24-Leads, Body 7.8x4.4mm, Pitch 0.65mm, Thermal Pad 4.42x1.95mm, IPC Low Density)
pins: 1 FB1 (in) "Feedback pin of the boost converter", 2 FB4 (in) "Feedback pin the of the linear regulator controller .The linear regulator controller is set to a fixed output voltage of 3.3 V of 3 V depending on the version.", 3 BASE (out) "Base drive output for the external transistor", 4 VIN (power) "Input voltage pin of the device.", 5 SW (power) "Switch pin of the boost converter", 6 SW (power) "Switch pin of the boost converter", 7 PGND (power) "Power ground", 8 PGND (power) "Power ground", 9 SUP (power) "Supply pin of the positive, negative charge pump, boost converter, and gate drive circuit.This pin needs to be connected to the output of the main boots converter and cannot be onnected to any other voltage source.For (See Datasheet)", 10 PG (oc) "Open drain output indicating when all outputs VO1, VO2, VO3 are within 10% of their nominal output voltage. The output goes low when one of the outputs falls below 10% of their nominal output voltage.", 11 GND (power) "Ground", 12 FB3 (in) "Feedback pin of positive charge pump", 13 OUT3 (power) "Positive charge pump output", 14 C2+ "Positive terminal for the charge pump flying capacitor. If the device runs in voltage doubler mode, this pin needs to be left open.", 15 C2-/MODE "Negative terminal of the charge pump flying capacitor and charge pump MODE pin. If the flying capacitor is connected to this pin, the concerter operates in a voltage tripler mode.if the charge pump needs to operate in a (See Datasheet)", 16 C1+ "Positive terminal of the charge pump flying capacitor", 17 C1- "Negative terminal of the charge pump flying capacitor", 18 DRV (power) "External charge pump driver", 19 GND (power) "Ground", 20 REF (out) "Internal reference output typically 1.23 V", 21 FB2 (in) "Feedback pin of negative charge pump", 22 COMP "Compensation pin for the main boost converter. A small capacitor is connected to this pin.", 23 ENR (in) "Enable pin of the linear regulator controller. This pin should be terminated and not be left floating. Logic high enables the regulator and a logic low puts the regulator in shutdown.", 24 EN (in) "Enable pin of the device.This pin should be terminated and be left floating.A logic high enables the device and a logic low shuts down the device.", 25 EP (power) "The PowerPAD or exposed thermal die needs to be connected to power ground pins (PGND)"

## TPS65140PWPRG4
designator U?
4-Channel LCD Bias with Fully Integrated Postive Charge Pump, 3.3 V LDO Controller, 2.7 to 5.8 V, -40 to 85 degC, 24-pin SOP (PWP24), Green (RoHS & no Sb/Br); Manufacturer: Texas Instruments; PartNumber: TPS65140PWPRG4; Iout(Max)(A): 0.02; Iq(Typ)(mA): 0.7; Rating: Catalog; SubFamily: LCD/OLED Display Bias Solutions; Switching Frequency(Typ)(kHz): 1600; Synchronous Rectification: TRUE; Topology: Boost, Inverting Buck/Boost; Vin(Max)(V): 5.8; Vin(Min)(V): 2.7; DatasheetVersion: SLVS497E; PackageVersion: 4073225-5/I; PackageReference: PWP24-4420X1950TP; PackageDescription: 24-Lead, Plastic Small Outline, Body Size 4.4 x 7.8 mm, Pitch 0.65 mm; Supplier 1: Digi-Key; Supplier Part Number 1: TPS65140PWPRG4-ND; Supplier 2: Mouser; Supplier Part Number 2: 595-TPS65140PWPRG4; Eco-Plan: Green (RoHS & no Sb/Br); Mounting Technology: Surface Mount; Code_JEDEC: MO-153; ComponentLink1Description: Manufacturer URL; ComponentLink1URL: http://www.ti.com/; ComponentLink2Description: Datasheet; ComponentLink2URL: http://www.ti.com/general/docs/lit/getliterature.tsp?genericPartNumber=TPS65140&fileType=pdf; ComponentLink3Description: Package Specification; ComponentLink3URL: http://www.ti.com/lit/ds/symlink/tps65101.pdf
footprint TI-PWP24-4420X1950TP_N (SOP, 24-Leads, Body 7.8x4.4mm, Pitch 0.65mm, Thermal Pad 4.42x1.95mm, IPC Medium Density)
footprint TI-PWP24-4420X1950TP_L (SOP, 24-Leads, Body 7.8x4.4mm, Pitch 0.65mm, Thermal Pad 4.42x1.95mm, IPC High Density)
footprint TI-PWP24-4420X1950TP_M (SOP, 24-Leads, Body 7.8x4.4mm, Pitch 0.65mm, Thermal Pad 4.42x1.95mm, IPC Low Density)
pins: 1 FB1 (in) "Feedback pin of the boost converter", 2 FB4 (in) "Feedback pin the of the linear regulator controller .The linear regulator controller is set to a fixed output voltage of 3.3 V of 3 V depending on the version.", 3 BASE (out) "Base drive output for the external transistor", 4 VIN (power) "Input voltage pin of the device.", 5 SW (power) "Switch pin of the boost converter", 6 SW (power) "Switch pin of the boost converter", 7 PGND (power) "Power ground", 8 PGND (power) "Power ground", 9 SUP (power) "Supply pin of the positive, negative charge pump, boost converter, and gate drive circuit.This pin needs to be connected to the output of the main boots converter and cannot be onnected to any other voltage source.For (See Datasheet)", 10 PG (oc) "Open drain output indicating when all outputs VO1, VO2, VO3 are within 10% of their nominal output voltage. The output goes low when one of the outputs falls below 10% of their nominal output voltage.", 11 GND (power) "Ground", 12 FB3 (in) "Feedback pin of positive charge pump", 13 OUT3 (power) "Positive charge pump output", 14 C2+ "Positive terminal for the charge pump flying capacitor. If the device runs in voltage doubler mode, this pin needs to be left open.", 15 C2-/MODE "Negative terminal of the charge pump flying capacitor and charge pump MODE pin. If the flying capacitor is connected to this pin, the concerter operates in a voltage tripler mode.if the charge pump needs to operate in a (See Datasheet)", 16 C1+ "Positive terminal of the charge pump flying capacitor", 17 C1- "Negative terminal of the charge pump flying capacitor", 18 DRV (power) "External charge pump driver", 19 GND (power) "Ground", 20 REF (out) "Internal reference output typically 1.23 V", 21 FB2 (in) "Feedback pin of negative charge pump", 22 COMP "Compensation pin for the main boost converter. A small capacitor is connected to this pin.", 23 ENR (in) "Enable pin of the linear regulator controller. This pin should be terminated and not be left floating. Logic high enables the regulator and a logic low puts the regulator in shutdown.", 24 EN (in) "Enable pin of the device.This pin should be terminated and be left floating.A logic high enables the device and a logic low shuts down the device.", 25 EP (power) "The PowerPAD or exposed thermal die needs to be connected to power ground pins (PGND)"

## TPS65140RGER
designator U?
4-Channel LCD Bias with Fully Integrated Postive Charge Pump, 3.3 V LDO Controller, 2.7 to 5.8 V, -40 to 85 degC, 24-pin QFN (RGE24), Green (RoHS & no Sb/Br); Manufacturer: Texas Instruments; PartNumber: TPS65140RGER; Iout(Max)(A): 0.02; Iq(Typ)(mA): 0.7; Rating: Catalog; SubFamily: LCD/OLED Display Bias Solutions; Switching Frequency(Typ)(kHz): 1600; Synchronous Rectification: TRUE; Topology: Boost, Inverting Buck/Boost; Vin(Max)(V): 5.8; Vin(Min)(V): 2.7; DatasheetVersion: SLVS497E; PackageVersion: 4204104/G; PackageReference: RGE24-2450X2450TP; PackageDescription: 24-Pin Plastic Flat Pack, Body 4 x 4 mm, 0.5 mm Pitch; Supplier 1: Digi-Key; Supplier Part Number 1: 296-18999-2-ND; Supplier 2: Digi-Key; Supplier Part Number 2: 296-18999-1-ND; Supplier 3: Digi-Key; Supplier Part Number 3: 296-18999-6-ND; Supplier 4: Mouser; Supplier Part Number 4: 595-TPS65140RGER; Eco-Plan: Green (RoHS & no Sb/Br); Mounting Technology: Surface Mount; Code_JEDEC: MO-220; ComponentLink1Description: Manufacturer URL; ComponentLink1URL: http://www.ti.com/; ComponentLink2Description: Datasheet; ComponentLink2URL: http://www.ti.com/general/docs/lit/getliterature.tsp?genericPartNumber=TPS65140&fileType=pdf; ComponentLink3Description: Package Specification; ComponentLink3URL: http://www.ti.com/litv/pdf/mpqf124f
footprint TI-RGE24-2450X2450TP_V (QFN, 24-Leads, Body 4x4mm, Pitch 0.5mm, Thermal Pad 2.45x2.45mm)
pins: 1 COMP "Compensation pin for the main boost converter. A small capacitor is connected to this pin.", 2 ENR (in) "Enable pin of the linear regulator controller. This pin should be terminated and not be left floating. Logic high enables the regulator and a logic low puts the regulator in shutdown.", 3 EN (in) "Enable pin of the device.This pin should be terminated and be left floating.A logic high enables the device and a logic low shuts down the device.", 4 FB1 (in) "Feedback pin of the boost converter", 5 FB4 (in) "Feedback pin the of the linear regulator controller .The linear regulator controller is set to a fixed output voltage of 3.3 V of 3 V depending on the version.", 6 BASE (out) "Base drive output for the external transistor", 7 VIN (power) "Input voltage pin of the device.", 8 SW (power) "Switch pin of the boost converter", 9 SW (power) "Switch pin of the boost converter", 10 PGND (power) "Power ground", 11 PGND (power) "Power ground", 12 SUP (power) "Supply pin of the positive, negative charge pump, boost converter, and gate drive circuit.This pin needs to be connected to the output of the main boots converter and cannot be onnected to any other voltage source.For (See Datasheet)", 13 PG (oc) "Open drain output indicating when all outputs VO1, VO2, VO3 are within 10% of their nominal output voltage. The output goes low when one of the outputs falls below 10% of their nominal output voltage.", 14 GND (power) "Ground", 15 FB3 (in) "Feedback pin of positive charge pump", 16 OUT3 (power) "Positive charge pump output", 17 C2+ "Positive terminal for the charge pump flying capacitor. If the device runs in voltage doubler mode, this pin needs to be left open.", 18 C2-/MODE "Negative terminal of the charge pump flying capacitor and charge pump MODE pin. If the flying capacitor is connected to this pin, the concerter operates in a voltage tripler mode.if the charge pump needs to operate in a (See Datasheet)", 19 GND (power) "Ground", 20 C1- "Negative terminal of the charge pump flying capacitor", 21 DRV (power) "External charge pump driver", 22 C1+ "Positive terminal of the charge pump flying capacitor", 23 REF (out) "Internal reference output typically 1.23 V", 24 FB2 (in) "Feedback pin of negative charge pump", 25 EP (power) "The PowerPAD or exposed thermal die needs to be connected to power ground pins (PGND)"